# Altium schematic symbol library LM2596.SchLib: 1 symbol
Pins are listed as number, name and electrical type; pins without a type are passive.

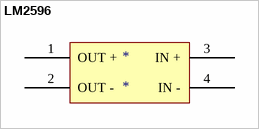
[diagram p0: symbol LM2596]

## LM2596
designator *
footprint PCBComponent_1
pins: 1 OUT +, 2 OUT -, 3 IN +, 4 IN -